# Altium schematic symbol library TVP5150AM1.SchLib: 2 symbols
Pins are listed as number, name and electrical type; pins without a type are passive.

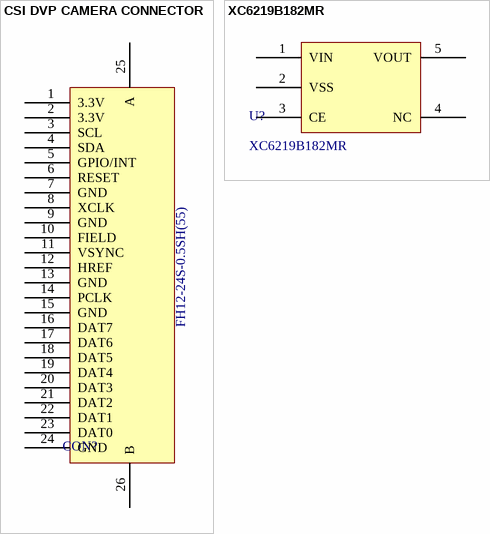
[diagram p0: symbols CSI DVP CAMERA CONNECTOR to XC6219B182MR]

## CSI DVP CAMERA CONNECTOR
designator CON?, comment Part Number: FH12-24S-0.5SH(55)  (hidden comment: 24 PIN FFC CONNECTOR 0.5MM PITCH)
CONN FFC BOTTOM 24POS 0.50MM R/A; Manufacturer: Hirose Electric Co Ltd; Pitch: 0.020" (0.50mm); Current Rating: 0.5A; Flat Flex Type: FFC, FPC; Connector/Contact Type: Contacts, Bottom; Material Flammability Rating: UL94 V-0; Actuator Material: Polyphenylene Sulfide (PPS); Cable End Type: Straight; Voltage Rating: 50V; Number of Positions: 24; Locking Feature: Flip Lock; FFC, FCB Thickness: 0.30mm; Category: Connectors, Interconnects; Housing Material: Polyamide (PA), Nylon; Operating Temperature: -40°C ~ 85°C; Termination: Solder; Part Status: Active; Contact Finish: Gold; Packaging: Cut Tape (CT); Height Above Board: 0.079" (2.00mm); RoHS: RoHS Compliant; Mounting Type: Surface Mount, Right Angle; Contact Material: Phosphor Bronze; Features: Zero Insertion Force (ZIF); Manufacturer Part Number: FH12-24S-0.5SH(55); Supplier: Digi-Key; Pricing: 1=2.26, 10=2.048, 25=1.9228, 50=1.8392, 100=1.7556, 250=1.5884, 500=1.463, 1000=1.254 (USD); Supplier Part Number: HFJ124CT-ND
footprint FH12-24S-0.5SH
pins: 1 3.3V, 2 3.3V, 3 SCL, 4 SDA, 5 GPIO/INT, 6 RESET, 7 GND, 8 XCLK, 9 GND, 10 FIELD, 11 VSYNC, 12 HREF, 13 GND, 14 PCLK, 15 GND, 16 DAT7, 17 DAT6, 18 DAT5, 19 DAT4, 20 DAT3, 21 DAT2, 22 DAT1, 23 DAT0, 24 GND, 25 A, 26 B

## XC6219B182MR
designator U?
pins: 1 VIN, 2 VSS, 3 CE, 4 NC, 5 VOUT